# EAGLE library part OPENLOG (library SparkFun-Aaron)
OpenLog (from SparkFun) Taken from the product page: https://www.sparkfun.com/products/9530 and the datasheet: https://github.com/sparkfun/OpenLog/wiki/datasheet
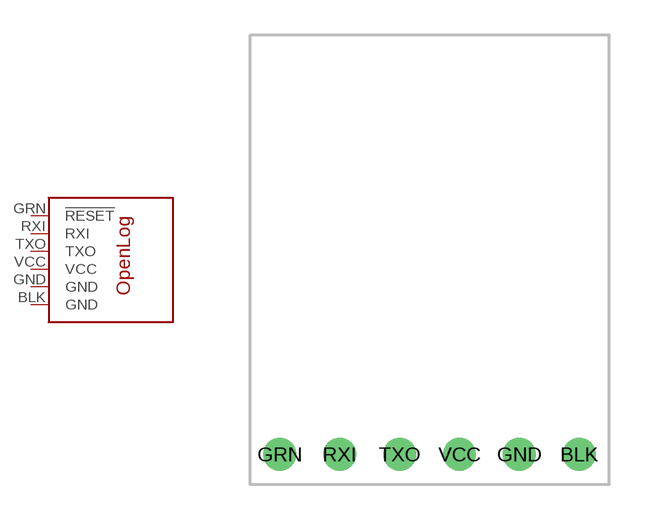
[diagram p0: symbol with the pads of OPENLOG; footprint OPENLOG]

Designator prefix -

## OPENLOG  [OPENLOG]
BLK  GND  pwr
GND  GND  pwr
GRN  !RESET  in
RXI  RXI  in
TXO  TXO  out
VCC  VCC  pwr

## Footprint OPENLOG (pad centres in mm)
drill 0.889 round: BLK 12.7,0; GND 10.16,0; GRN 0,0; RXI 2.54,0; TXO 5.08,0; VCC 7.62,0